# EAGLE library part TMC249A-SA (library trinamic)
TRINAMIC Smart Power Microstepping PWM Motor Driver with stallGuard™ Information given in this library is believed to be accurate and reliable. However no warranty is given for its correctness. Datasheet for TMC249 <http://www.trinamic.com/tmc/media/Downloads/integrated_circuits/Tmc249/TMC249_datasheet.pdf> Description Smart Power Microstepping PWM Motor Driver with stallGuard™ sensorless stall detection, external power transistors and protection, diagnostics and SPI Interface The TMC249 is a smart high current microstepping driver for bipolar stepper motors. The integrated unique sensorless stall detection stallGuard™ makes it a good choice for applications, where a reference point is needed, but where a switch cannot be used. The ability to predict an overload makes the TMC249 an optimum choice for drives, where a high reliability is desired. It provides an SPI™ interface as well as the classical analog / digital control. A full set of protection and diagnostic features makes this device very rugged. It directly drives external MOSFETs for currents up to 6A. This way it reaches an extremely high efficiency and allows driving of a high motor current without cooling measures even at high environment temperatures. With the new chip-scale QFN package a 4A motor driver can be realized on the size of a stamp! The high motor current makes this device ideal for miniaturized highly dynamic and high torque drive systems. Specifications 2-phase bipolar stepper motor driver Sensorless stall detection stallGuard™ and load measurement integrated Control via SPI with easy-to-use 12 bit protocol or external analog / digital signals Short circuit and over temperature protection integrated Overvoltage protection integrated Status flags for overcurrent, open load, over temperature, temperature pre-warning, undervoltage Integrated 4 bit DACs allow up to 16 times microstepping via SPI, any resolution via analog control Mixed decay feature for smooth motor operation Slope control user programmable to reduce electromagnetic emissions Chopper frequency programmable via a single capacitor or external clock Current control allows cool motor and driver operation Internal open load detector 7V to 34V motor supply voltage More than 6000mA using 8 external MOS transistors External drivers can be added for higher motor voltages and higher currents (e.g. 50V, 5A) Only 4 external PMOS transistors required for unipolar operation 3.3V or 5V operation for digital part Low power consumption via low RDS-ON power stage Standby and shutdown mode available
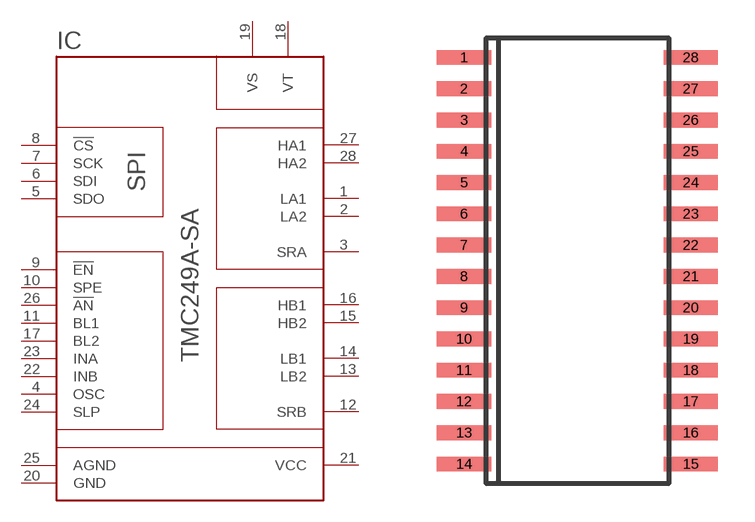
[diagram p17: symbol with the pads of SO28; footprint SO28]

Designator prefix IC

## TMC249A-SA  [SO28]
1  LA1  out
2  LA2  out
3  SRA  in
4  OSC  in
5  SDO  hiz
6  SDI  in
7  SCK  in
8  !CS  in
9  !EN  in
10  SPE  in
11  BL1  in
12  SRB  in
13  LB2  out
14  LB1  out
15  HB2  out
16  HB1  out
17  BL2  in
18  VT  in
19  VS  in
20  GND  in
21  VCC  in
22  INB  in
23  INA  in
24  SLP  in
25  AGND  in
26  !AN  in
27  HA1  out
28  HA2  out

## Footprint SO28 (pad centres in mm)
smd 2.2 x 0.6: 1 -4.6,8.255; 2 -4.6,6.985; 3 -4.6,5.715; 4 -4.6,4.445; 5 -4.6,3.175; 6 -4.6,1.905; 7 -4.6,0.635; 8 -4.6,-0.635; 9 -4.6,-1.905; 10 -4.6,-3.175; 11 -4.6,-4.445; 12 -4.6,-5.715; 13 -4.6,-6.985; 14 -4.6,-8.255; 15 4.6,-8.255; 16 4.6,-6.985; 17 4.6,-5.715; 18 4.6,-4.445; 19 4.6,-3.175; 20 4.6,-1.905; 21 4.6,-0.635; 22 4.6,0.635; 23 4.6,1.905; 24 4.6,3.175; 25 4.6,4.445; 26 4.6,5.715; 27 4.6,6.985; 28 4.6,8.255